# Altium footprint library CON 52207-0585.PcbLib: 1 footprints
Each footprint in its own frame and in the unit in brackets; x right, y up, seen from the top. Pads: shape width x height; smd on the part's side, far side on the other; paste and mask are expansions set on the pad; w line width, h text height; cw(c..) or ccw(c..) is an arc to the next point about the centre after c.
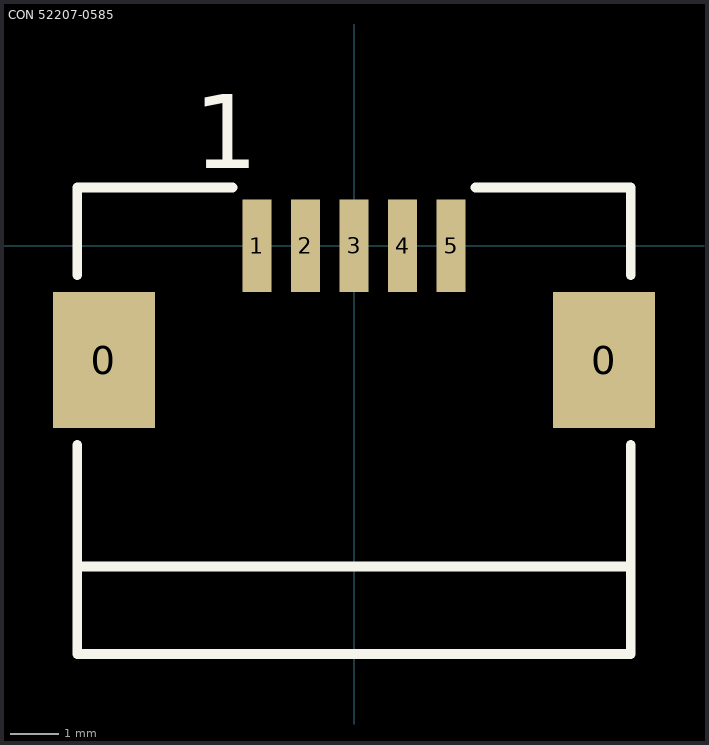
[diagram p0: the footprint, top view; thin cyan lines are the x and y axes]

## CON 52207-0585 [mm]
pads (7):
  rect 2.1x2.8 smd: 0(-5.15,-2.35) 0(5.15,-2.35)
  rect 0.6x1.9 smd: 1(-2,0) 2(-1,0) 3(0,0) 4(1,0) 5(2,0)
TopOverlay:
  lines w0.2: -5.7,-6.6 5.7,-6.6 ; -5.7,-4.1 -5.7,-8.4 0,-8.4 5.7,-8.4 5.7,-4.1 ; -5.7,-0.6 -5.7,1.2 -2.5,1.2 ; 2.5,1.2 5.7,1.2 5.7,-0.6
  text "1" at -3.3,1.6 h1.52
Mechanical4:
  text ".031" at -9.5,1.175 h0.03
3D body: height 2.72, standoff 0.02, extent -5.65,-8.25 5.65,0.65